# Altium footprint library regulator.PCBLIB: 15 footprints
Each footprint in its own frame and in the unit in brackets; x right, y up, seen from the top. Pads: shape width x height; smd on the part's side, far side on the other; paste and mask are expansions set on the pad; w line width, h text height; cw(c..) or ccw(c..) is an arc to the next point about the centre after c.
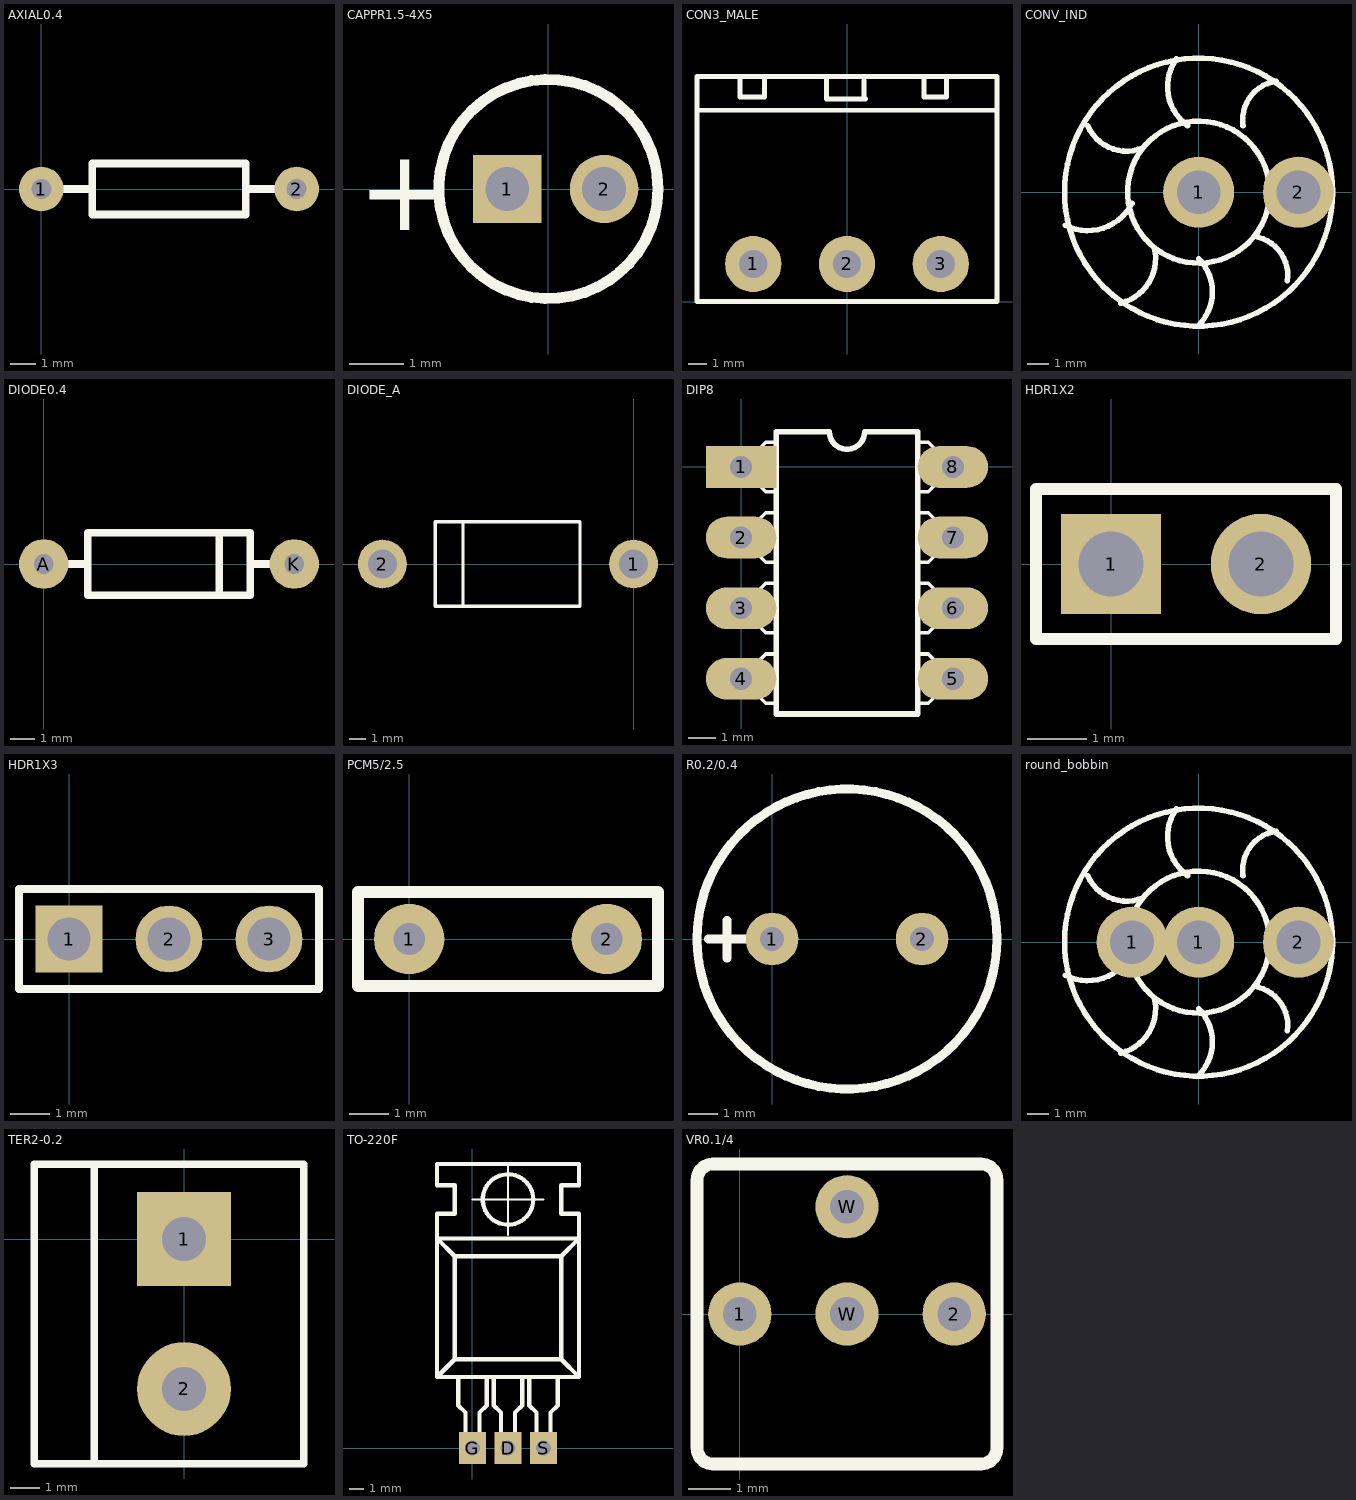
[diagram p0: the footprints below, top view; thin cyan lines are the x and y axes]

## AXIAL0.4 [mil]
pads (2):
  round 70 hole 31.5: 1(0,0) 2(400,0)
TopOverlay:
  lines w12: 0,0 80,0 ; 320,0 400,0 ; 80,-40 80,40 320,40 320,-40 80,-40

## CAPPR1.5-4X5 [mm]
pads (2):
  rect 1.25x1.25 hole 0.8: 1(-0.75,0)
  round 1.25 hole 0.8: 2(1.016,0)
TopOverlay:
  circle w0.2: c0,0 r2
  text "+" at -3.475,-0.75 h1.5

## CON3_MALE [mm]
pads (3):
  round 3 hole 1.5: 1(-5,2) 2(0,2) 3(5,2)
TopOverlay:
  lines w0.254: -8,10.2 8,10.2 ; -5.7,12 -5.7,10.9 -4.4,10.9 -4.4,12 ; -1.1,12 -1.1,10.8 1,10.8 0.9,10.9 0.9,11.8 ; 4.1,12 4.1,10.9 5.3,10.9 5.3,12 ; -8,0 -8,12 8,12 8,0 -8,0

## CONV_IND [mm]
pads (2):
  round 3.25 hole 2: 1(0,0) 2(4.572,0)
TopOverlay:
  circle w0.254: c0,0 r6.138
  circle w0.254: c0,0 r3.253
  lines w0.254: -6.096,-1.524 ccw(c-5.08,0.508) -3.048,-0.508 ; -5.08,3.048 ccw(c-3.302,3.81) -2.54,2.032 ; -3.556,-5.08 ccw(c-4.064,-3.048) -2.032,-2.54 ; -1.016,6.096 ccw(c0.762,4.826) -0.508,3.048 ; 0,-6.096 ccw(c-1.524,-4.572) 0,-3.048 ; 2.032,3.048 cw(c3.81,3.302) 3.556,5.08 ; 2.54,-2.032 cw(c2.286,-3.81) 4.064,-4.064

## DIODE0.4 [mil]
pads (2):
  round 79 hole 31.5: A(0,0) K(400,0)
TopOverlay:
  lines w12: 0,0 70,0 ; 280,-50 280,50 ; 330,0 400,0 ; 70,-50 70,50 330,50 330,-50 70,-50

## DIODE_A [mm]
pads (2):
  round 3 hole 1.8: 1(0,0) 2(-15.45,0)
TopOverlay:
  lines w0.2: -10.5,-2.6 -10.5,2.5 ; -12.2,-2.6 -3.3,-2.6 -3.3,2.6 -12.2,2.6 -12.2,-2.6

## DIP8 [mm]
pads (8):
  rect 2.54x1.5 hole 0.8: 1(0,0)
  oval 2.54x1.5 hole 0.8: 2(0,-2.54) 3(0,-5.08) 4(0,-7.62) 5(7.62,-7.62) 6(7.62,-5.08) 7(7.62,-2.54) 8(7.62,0)
TopOverlay:
  lines w0.127: 1.27,-8.509 0.889,-8.509 0.381,-8.001 0,-8.001 0,-7.239 0.381,-7.239 0.889,-6.731 1.27,-6.731 ; 1.27,-5.969 0.889,-5.969 0.381,-5.461 0,-5.461 0,-4.699 0.381,-4.699 0.889,-4.191 1.27,-4.191 ; 1.27,-3.429 0.889,-3.429 0.381,-2.921 0,-2.921 0,-2.159 0.381,-2.159 0.889,-1.651 1.27,-1.651 ; 1.27,-0.889 0.889,-0.889 0.381,-0.381 0,-0.381 0,0.381 0.381,0.381 0.889,0.889 1.27,0.889 ; 6.35,-8.509 6.731,-8.509 7.239,-8.001 7.62,-8.001 7.62,-7.239 7.239,-7.239 6.731,-6.731 6.35,-6.731 ; 6.35,-5.969 6.731,-5.969 7.239,-5.461 7.62,-5.461 7.62,-4.699 7.239,-4.699 6.731,-4.191 6.35,-4.191 ; 6.35,-3.429 6.731,-3.429 7.239,-2.921 7.62,-2.921 7.62,-2.159 7.239,-2.159 6.731,-1.651 6.35,-1.651 ; 6.35,-0.889 6.731,-0.889 7.239,-0.381 7.62,-0.381 7.62,0.381 7.239,0.381 6.731,0.889 6.35,0.889
  lines w0.203: 1.27,-8.89 6.35,-8.89 6.35,1.27 4.445,1.27 cw(c3.81,1.27) 3.175,1.27 1.27,1.27 1.27,-8.89

## HDR1X2 [mm]
pads (2):
  rect 1.7x1.7 hole 1.1: 1(0,0)
  round 1.7 hole 1.1: 2(2.54,0)
TopOverlay:
  lines w0.2: -1.27,-1.27 3.81,-1.27 3.81,1.27 -1.27,1.27 -1.27,-1.27

## HDR1X3 [mm]
pads (3):
  rect 1.7x1.7 hole 1.1: 1(0,0)
  round 1.7 hole 1.1: 2(2.54,0) 3(5.08,0)
TopOverlay:
  lines w0.2: -1.27,-1.27 6.35,-1.27 6.35,1.27 -1.27,1.27 -1.27,-1.27

## PCM5/2.5 [mil]
pads (2):
  round 70 hole 31.5: 1(0,0) 2(197,0)
TopOverlay:
  lines w12: -51,-47 248,-47 248,47 -51,47 -51,-47

## R0.2/0.4 [mil]
pads (2):
  round 70 hole 31.5: 1(0,0) 2(200,0)
TopOverlay:
  circle w12: c100,0 r200
  lines w12: -85,0 -35,0 ; -60,-25 -60,25

## round_bobbin [mm]
pads (3):
  round 3.25 hole 2: 1(-3.048,0) 1(0,0) 2(4.572,0)
TopOverlay:
  circle w0.254: c0,0 r3.253
  circle w0.254: c0,0 r6.138
  lines w0.254: -6.096,-1.524 ccw(c-5.08,0.508) -3.048,-0.508 ; -5.08,3.048 ccw(c-3.302,3.81) -2.54,2.032 ; -3.556,-5.08 ccw(c-4.064,-3.048) -2.032,-2.54 ; -1.016,6.096 ccw(c0.762,4.826) -0.508,3.048 ; 0,-6.096 ccw(c-1.524,-4.572) 0,-3.048 ; 2.032,3.048 cw(c3.81,3.302) 3.556,5.08 ; 2.54,-2.032 cw(c2.286,-3.81) 4.064,-4.064

## TER2-0.2 [mm]
pads (2):
  rect 3.175x3.175 hole 1.5: 1(0,0)
  round 3.175 hole 1.5: 2(0,-5.08)
TopOverlay:
  lines w0.254: -3.048,-7.62 -3.048,2.54 ; -5.08,-7.62 -5.08,2.54 4.064,2.54 4.064,-7.62 -5.08,-7.62

## TO-220F [mil]
pads (3):
  rect 75x90 hole 43.31: D(100,0) G(0,0) S(200,0)
TopOverlay:
  circle w12: c100,700 r71
  lines w5: 0,700 200,700 ; 100,600 100,800
  lines w12: -95,205 -50,250 ; -40,200 -40,120 -20,100 -20,0 20,0 20,100 40,120 40,200 ; 60,200 60,120 80,100 80,0 120,0 120,100 140,120 140,200 ; 160,200 160,120 180,100 180,0 220,0 220,100 240,120 240,200 ; -50,250 -50,540 ; -50,250 250,250 ; -50,540 -100,590 300,590 250,540 ; -50,540 250,540 ; 250,250 300,200 ; 250,250 250,540 ; 300,200 300,660 250,660 250,740 300,740 300,800 -100,800 -100,740 -50,740 -50,660 -100,660 -100,200 300,200

## VR0.1/4 [mm]
pads (4):
  round 1.5 hole 0.8: 1(0,0) 2(5.08,0) W(2.54,0) W(2.54,2.54)
TopOverlay:
  lines w0.305: -1.016,-3.175 ccw(c-0.635,-3.175) -0.635,-3.556 5.715,-3.556 ccw(c5.715,-3.175) 6.096,-3.175 6.096,3.175 ccw(c5.715,3.175) 5.715,3.556 -0.635,3.556 ccw(c-0.635,3.175) -1.016,3.175 -1.016,-3.175